# Altium schematic symbol library On_Board_Antenna.SchLib: 1 symbol
Pins are listed as number, name and electrical type; pins without a type are passive.

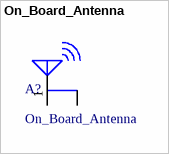
[diagram p0: symbol On_Board_Antenna]

## On_Board_Antenna
designator A?
2.4GHz On_Board_Antenna; LCSC: *
footprint On_Board_Antenna
pins: 1, 2